# EAGLE library part 24HJ12GP201 (library custom)
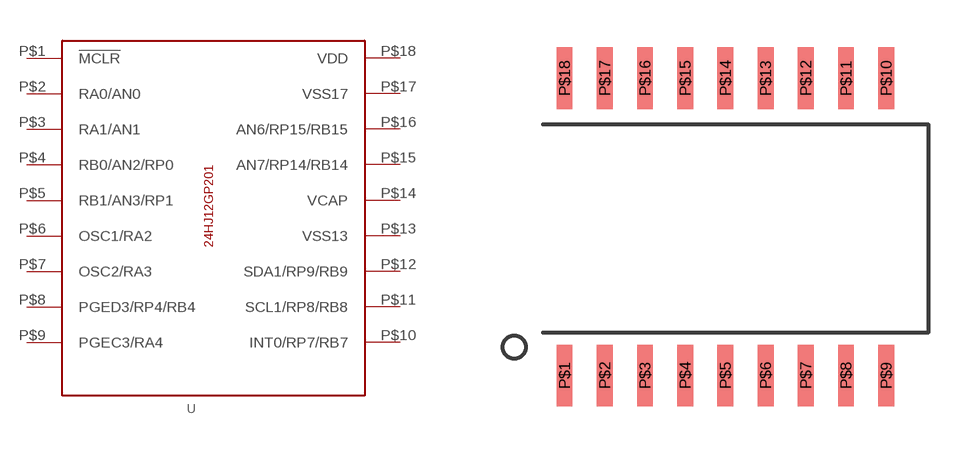
[diagram p36: symbol with the pads of SOIC_18_WIDE; footprint SOIC_18_WIDE]

Designator prefix -

## 24HJ12GP201  [SOIC_18_WIDE]
P$1  !MCLR
P$2  RA0/AN0
P$3  RA1/AN1
P$4  RB0/AN2/RP0
P$5  RB1/AN3/RP1
P$6  OSC1/RA2
P$7  OSC2/RA3
P$8  PGED3/RP4/RB4
P$9  PGEC3/RA4
P$10  INT0/RP7/RB7
P$11  SCL1/RP8/RB8
P$12  SDA1/RP9/RB9
P$13  VSS13
P$14  VCAP
P$15  AN7/RP14/RB14
P$16  AN6/RP15/RB15
P$17  VSS17
P$18  VDD

## Footprint SOIC_18_WIDE (pad centres in mm)
smd 0.5 x 1.95: P$1 -5.715,-4.7; P$2 -4.445,-4.7; P$3 -3.175,-4.7; P$4 -1.905,-4.7; P$5 -0.635,-4.7; P$6 0.635,-4.7; P$7 1.905,-4.7; P$8 3.175,-4.7; P$9 4.445,-4.7; P$10 4.445,4.7; P$11 3.175,4.7; P$12 1.905,4.7; P$13 0.635,4.7; P$14 -0.635,4.7; P$15 -1.905,4.7; P$16 -3.175,4.7; P$17 -4.445,4.7; P$18 -5.715,4.7